# Altium footprint library libreriaPcb.PcbLib: 683 footprints (part 39 of 44)
Each footprint in its own frame and in the unit in brackets; x right, y up, seen from the top. Pads: shape width x height; smd on the part's side, far side on the other; paste and mask are expansions set on the pad; w line width, h text height; cw(c..) or ccw(c..) is an arc to the next point about the centre after c.
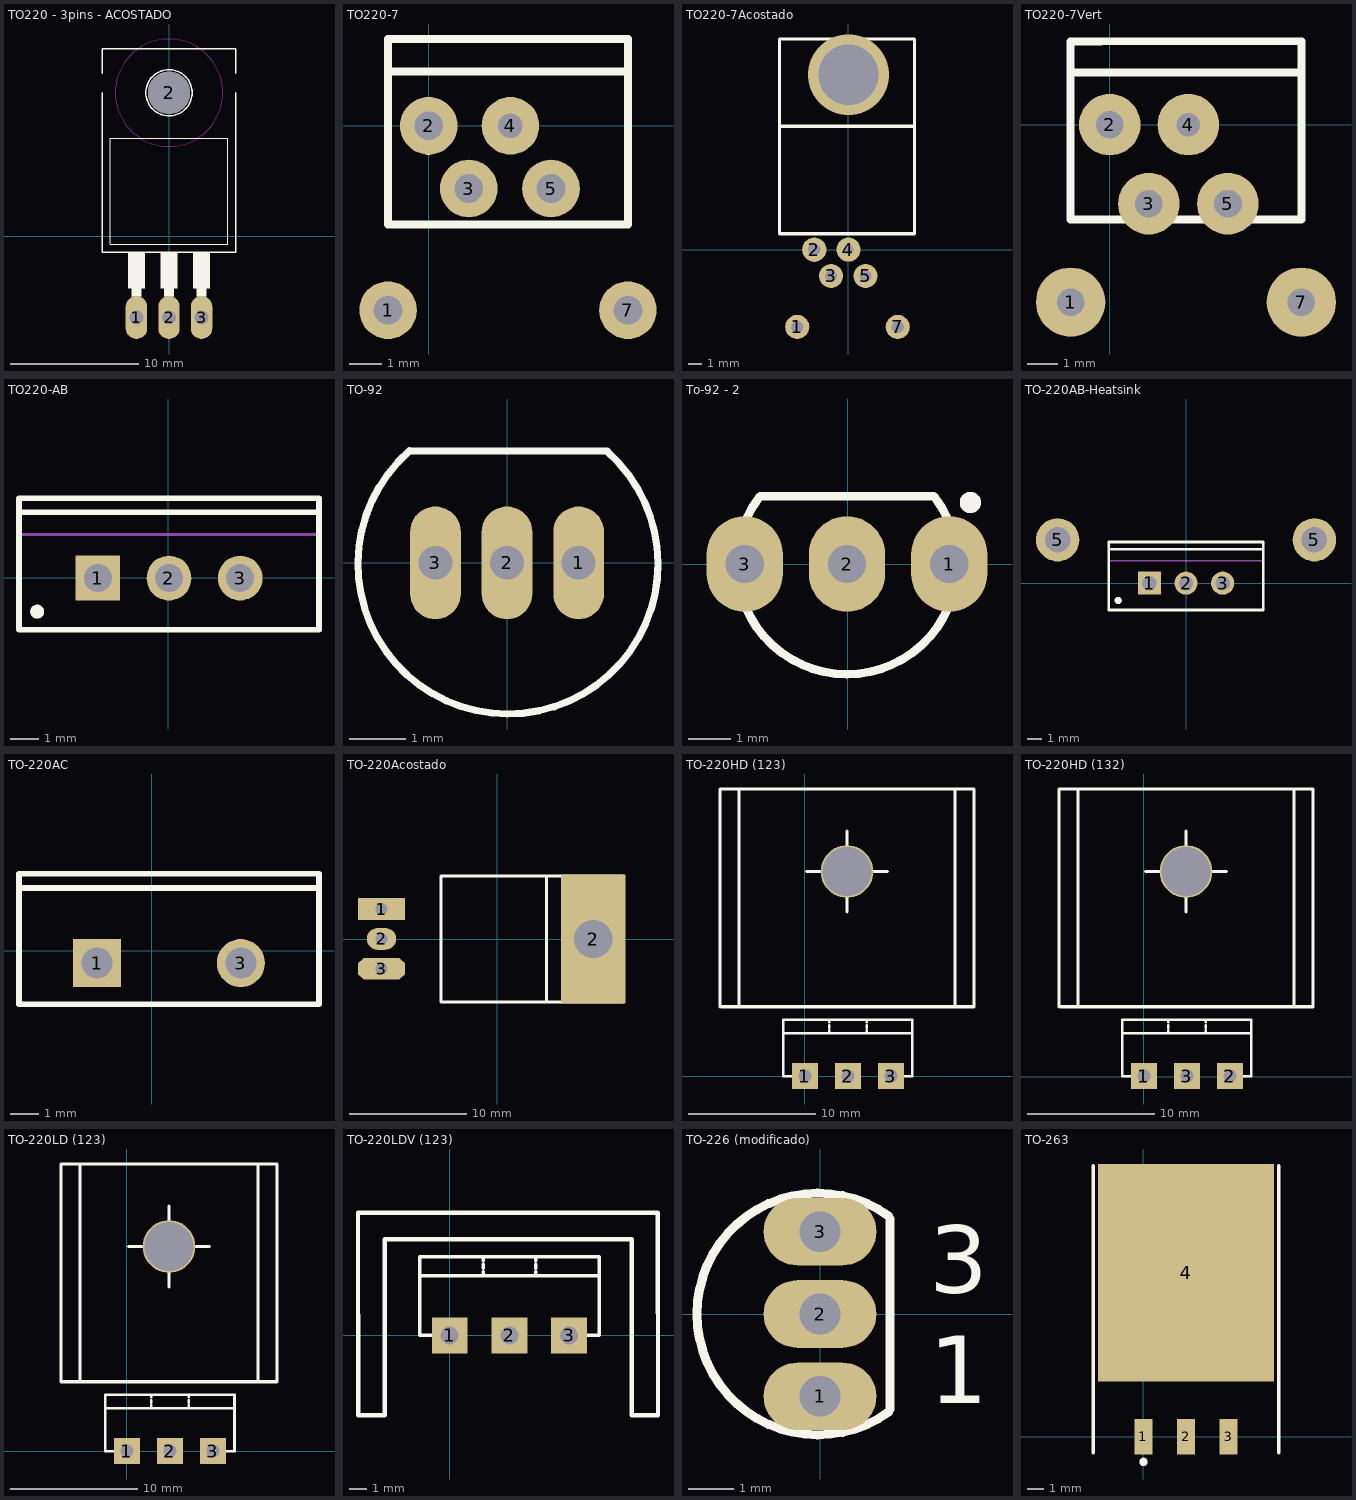
[diagram p38: the footprints below, top view; thin cyan lines are the x and y axes]

## TO220 - 3pins - ACOSTADO [mil]
pads (4):
  oval 66x132 hole 44: 1(-100,-250) 2(0,-250) 3(100,-250)
  round 130 hole 130 unplated: 2(0,440)
Top Overlay:
  circle w5: c0,440 r71
  region: 115,-185.06 85.03,-185.06 85.03,-160 115,-160
  region: 15,-185.09 -15.01,-185.09 -15.01,-160 15,-160
  region: -85,-185.08 -115.05,-185.08 -115.05,-160 -85,-160
  region: -75,-160.28 -125.22,-160.28 -125.22,-50 -75,-50
  region: 25,-160.22 -25.03,-160.22 -25.03,-50 25,-50
  region: 125,-160.18 75.08,-160.18 75.08,-50 125,-50
  lines w2: -180,-25 180,-25 180,300 -180,300 -180,-25
  lines w5: -205,440 -205,-50 205,-50 205,440 ; -205,500 -205,575 205,575 205,500
Keep-Out Layer:
  circle w0: c0,440 r165
  circle w0: c0,440 r165
Mechanical 13:
  region: -85,-260.33 -115.14,-260.33 -115.14,-185 -85,-185
  region: 15,-260.5 -15.03,-260.5 -15.03,-185 15,-185
  region: 115,-260.31 85.1,-260.31 85.1,-185 115,-185
  text "1" at -125.24,0 h50.1
  text "2" at -25.04,0 h50.08
  text "3" at 75.02,0 h50.01
3D body "step_temp.STEP": height 1155, standoff 0, extent -200,-67.5 200,112.5

## TO220-7 [mm]
pads (6):
  round 1.8 hole 0.9: 1(-1.27,-5.76) 2(0,0) 3(1.25,-1.96) 5(3.82,-1.96) 7(6.22,-5.76)
  round 1.8 hole 0.762: 4(2.55,0)
Top Overlay:
  lines w0.254: -1.19,2.71 6.22,2.71 ; -0.294,2.706 -1.27,2.706 -1.27,1.69 ; -0.02,-0.78 0,-0.78 ; 5.33,2.71 6.22,2.71 ; -1.27,1.69 -1.27,-3.08 6.22,-3.08 6.22,1.69 ; -1.27,1.69 6.22,1.69 ; 6.22,1.69 6.22,2.71

## TO220-7Acostado [mm]
pads (6):
  round 1.8 hole 0.9: 1(-3.82,-5.76) 2(-2.55,0) 3(-1.3,-1.96) 5(1.27,-1.96) 7(3.67,-5.76)
  round 1.8 hole 0.762: 4(0,0)
via 0,13.03 diameter 6 hole 4.5
Top Overlay:
  lines w0.254: -2.57,-0.78 -2.55,-0.78 ; -5.141,9.195 -5.141,1.194 4.918,1.194 4.918,9.195 ; -5.141,9.195 4.918,9.195 ; -5.141,9.195 -5.141,15.697 4.918,15.697 4.918,9.195
3D body: height 3.5, standoff 2.5, extent 3.134,-5.755 4.13,1.245
3D body: height 3.5, standoff 0, extent 3.161,-6.316 4.157,-5.318
3D body: height 3.5, standoff 0, extent -4.256,-6.265 -3.26,-5.267
3D body: height 3.5, standoff 0, extent 0.773,-2.506 1.769,-1.508
3D body: height 3.5, standoff 0, extent -1.796,-2.459 -0.8,-1.461
3D body: height 3.5, standoff 0, extent -0.547,-0.499 0.449,0.499
3D body: height 6, standoff 2, extent -5.141,1.194 4.918,9.195
3D body: height 4, standoff 2, extent -5.141,9.195 4.918,15.697
3D body: height 3.5, standoff 0, extent -3.059,-0.48 -2.063,0.518
3D body: height 3.5, standoff 2.5, extent -4.278,-5.811 -3.282,1.189
3D body: height 3.5, standoff 2.5, extent -1.793,-1.881 -0.797,1.119
3D body: height 3.5, standoff 2.5, extent 0.772,-1.96 1.768,1.04
3D body: height 3.5, standoff 2.5, extent -3.063,-0.381 -2.067,1.119
3D body: height 3.5, standoff 2.5, extent -0.508,-0.279 0.488,1.221

## TO220-7Vert [mm]
pads (6):
  round 2.25 hole 0.9: 1(-1.27,-5.76) 7(6.22,-5.76)
  round 2 hole 0.9: 2(0,0) 3(1.27,-2.565) 5(3.835,-2.565)
  round 2 hole 0.762: 4(2.55,0)
Top Overlay:
  lines w0.254: -1.19,2.71 6.22,2.71 ; -0.294,2.706 -1.27,2.706 -1.27,1.69 ; -0.02,-0.78 0,-0.78 ; 5.33,2.71 6.22,2.71 ; -1.27,1.69 6.22,1.69 ; -1.27,1.69 -1.27,-3.08 6.22,-3.08 6.22,1.69 ; 6.22,1.69 6.22,2.71
3D body: height 3.8, standoff 2.2, extent -2.044,-5.651 -0.444,-1.651
3D body: height 5, standoff 3, extent 5.385,-2.845 6.985,-1.245
3D body: height 5, standoff 3, extent -2.032,-2.82 -0.432,-1.22
3D body: height 5, standoff 0, extent -0.813,-0.78 0.787,0.819
3D body: height 19, standoff 13, extent -1.295,1.69 6.195,2.71
3D body: height 13, standoff 5, extent -1.27,-3.08 6.22,2.706
3D body: height 5, standoff 0, extent 1.699,-0.799 3.299,0.799
3D body: height 5, standoff 0, extent 0.508,-3.478 2.108,-1.88
3D body: height 5, standoff 0, extent 3.023,-3.428 4.623,-1.829
3D body: height 3.7, standoff 0, extent -2.01,-6.566 -0.41,-4.966
3D body: height 3.7, standoff 0, extent 5.407,-6.617 7.007,-5.017
3D body: height 3.8, standoff 2.2, extent 5.385,-5.708 6.985,-1.708

## TO220-AB [mm] "TO-220 Pkg"
height 18
pads (3):
  rect 1.6x1.6 hole 1: 1(-2.505,-0.011)
  round 1.6 hole 1: 2(0.035,-0.011) 3(2.575,-0.011)
Top Overlay:
  circle w0.25: c-4.665,-1.211 r0.125
  lines w0.2: -5.315,2.339 5.385,2.339 ; -5.315,-1.861 -5.315,2.839 5.385,2.839 5.385,-1.861 -5.315,-1.861
Mechanical 13:
  lines w0.1: -5.315,1.539 5.385,1.539 ; -5.315,-1.861 5.385,-1.861 5.385,2.839 -5.315,2.839 -5.315,-1.861
Mechanical 15:
  lines w0.1: -0.465,-0.011 0.535,-0.011 ; 0.035,-0.511 0.035,0.489
3D body: height 12.9, standoff 4, extent -5.365,-1.911 5.435,2.889
3D body: height 19.3, standoff 12.9, extent -5.314,1.54 5.384,2.838

## TO-92 [mm]
pads (3):
  oval 0.9x2 hole 0.6 paste+0: 1(1.27,0) 2(0,0) 3(-1.27,0)
Top Overlay:
  lines w0.127: -1.728,1.986 ccw(c0.017,-0.021) 1.774,1.976 ; -1.727,1.981 1.778,1.981
3D body: height 5, standoff 1, extent -2.515,-2.642 2.565,1.905
3D body: height 1, standoff 0, extent -1.518,-0.249 -1.02,0.25
3D body: height 1, standoff 0, extent -0.261,-0.249 0.237,0.25
3D body: height 1, standoff 0, extent 0.997,-0.249 1.495,0.25

## To-92 - 2 [mm]
pads (3):
  oval 1.8x2.25 hole 0.9: 1(2.392,0.002) 2(-0.021,0.002) 3(-2.434,0.002)
Top Overlay:
  circle w0.25: c2.889,1.452 r0.125
  lines w0.2: -2.07,1.602 2.028,1.602 ; -2.07,1.603 ccw(c-0.021,0.002) 2.028,1.603
Mechanical 13:
  lines w0.1: -2.07,1.602 2.028,1.602 ; -2.07,1.603 ccw(c-0.021,0.002) 2.028,1.603
Mechanical 15:
  lines w0.1: -0.521,0.002 0.479,0.002 ; -0.021,-0.498 -0.021,0.502
3D body: height 7, standoff 1.5, extent -2.632,-2.597 2.59,1.602

## TO-220AB-Heatsink [mm] "TO, Thru-Hole, Vertical, Heatsink Mounted; 3 In-Line Leads; Pitch 2.54 mm"
height 19.3
pads (5):
  rect 1.6x1.6 hole 1: 1(-2.54,0)
  round 1.6 hole 1: 2(0,0) 3(2.54,0)
  round 3 hole 1.75: 5(-8.89,3) 5(8.89,3)
Top Overlay:
  circle w0.25: c-4.7,-1.2 r0.125
  lines w0.2: -5.35,2.35 5.35,2.35 ; -5.35,-1.85 -5.35,2.85 5.35,2.85 5.35,-1.85 -5.35,-1.85
Mechanical 13:
  lines w0.1: -5.35,1.55 5.35,1.55 ; -5.35,-1.85 5.35,-1.85 5.35,2.85 -5.35,2.85 -5.35,-1.85
Mechanical 15:
  lines w0.1: -0.5,0 0.5,0 ; 0,-0.5 0,0.5
3D body: height 12.9, standoff 4, extent -5.4,-1.9 5.4,2.9
3D body: height 19.3, standoff 12.9, extent -5.349,1.551 5.349,2.849

## TO-220AC [mm]
pads (2):
  rect 1.7x1.7 hole 1.1: 1(-1.93,-0.432)
  round 1.7 hole 1.1: 3(3.15,-0.432)
Top Overlay:
  lines w0.2: -4.69,2.218 5.91,2.218 ; -4.69,-1.882 5.91,-1.882 5.91,2.718 -4.69,2.718 -4.69,-1.882
3D body: height 12.9, standoff 4, extent -4.409,-1.6 5.69,2.646
3D body: height 19.3, standoff 12.9, extent -4.359,1.297 5.664,2.595

## TO-220Acostado [mm]
pads (4):
  rect 4x1.85 hole 1: 1(-9.843,2.569)
  oval 2.5x1.85 hole 1: 2(-9.843,0.029)
  rect 5.5x11 hole 3.25: 2(8.166,0.02)
  oct 4x1.85 hole 1: 3(-9.843,-2.511)
Top Overlay:
  lines w0.254: 4.178,-5.321 4.178,5.379 ; 4.178,-5.321 -4.788,-5.321 -4.788,5.379 4.178,5.379 ; 4.178,-5.321 10.681,-5.321 10.681,5.379 4.178,5.379
Mechanical 15:
  lines w0.1: -10.343,0.029 -9.343,0.029 ; -9.843,-0.471 -9.843,0.529
3D body: height 4, standoff 0, extent -4.597,-5.406 4.178,5.394
3D body: height 1.1, standoff 0, extent 4.178,-5.321 10.731,5.378
3D body: height 3, standoff 2, extent -9.991,2.069 -4.991,3.069
3D body: height 2.5, standoff 0, extent -10.342,2.069 -9.342,3.069
3D body: height 2.5, standoff 0, extent -10.342,-0.471 -9.342,0.529
3D body: height 2.5, standoff 0, extent -10.342,-3.011 -9.342,-2.011
3D body: height 3, standoff 2, extent -9.94,-2.986 -4.94,-1.986
3D body: height 3, standoff 2, extent -9.915,-0.48 -4.915,0.52
3D body: height 1.15, standoff 0, extent 6.417,-1.73 9.916,1.77

## TO-220HD (123) [mil]
pads (4):
  rect 80x80 hole 40: 1(0,0) 2(133.33,0) 3(266.67,0)
  round 163 hole 153: ""(130.33,634.17)
Top Overlay:
  lines w7.87: -66.67,133.33 333.33,133.33 ; 7.87,0 -66.67,0 -66.67,175 333.33,175 333.33,0 258.79,0 ; 75,133.33 75,141.67 ; 75,150 75,158.33 ; 75,166.67 75,175 ; 191.67,133.33 191.67,141.67 ; 191.67,150 191.67,158.33 ; 191.67,166.67 191.67,175
  lines w10: -263.37,215.07 -263.37,890.07 524.03,890.07 524.03,215.07 -257.66,215.07 ; -204.31,215.07 -204.31,890.07 ; 5.33,634.17 55.33,634.17 ; 130.33,509.17 130.33,559.17 ; 130.33,709.17 130.33,759.17 ; 205.33,634.17 255.33,634.17 ; 464.98,215.07 464.98,890.07

## TO-220HD (132) [mil]
pads (4):
  rect 80x80 hole 40: 1(0,1.67) 2(266.67,1.67) 3(133.33,1.67)
  round 163 hole 153: ""(130.33,635.83)
Top Overlay:
  lines w7.87: -66.67,135 333.33,135 ; 7.87,1.67 -66.67,1.67 -66.67,176.67 333.33,176.67 333.33,1.67 258.79,1.67 ; 75,135 75,143.33 ; 75,151.67 75,160 ; 75,168.33 75,176.67 ; 191.67,135 191.67,143.33 ; 191.67,151.67 191.67,160 ; 191.67,168.33 191.67,176.67
  lines w10: -263.37,216.74 -263.37,891.74 524.03,891.74 524.03,216.74 -257.66,216.74 ; -204.31,216.74 -204.31,891.74 ; 5.33,635.83 55.33,635.83 ; 130.33,510.83 130.33,560.83 ; 130.33,710.83 130.33,760.83 ; 205.33,635.83 255.33,635.83 ; 464.98,216.74 464.98,891.74

## TO-220LD (123) [mil]
pads (4):
  rect 80x80 hole 40: 1(0,0) 2(133.33,0) 3(266.67,0)
  round 163 hole 153: ""(130.33,634.17)
Top Overlay:
  lines w7.87: -66.67,133.33 333.33,133.33 ; 7.87,0 -66.67,0 -66.67,175 333.33,175 333.33,0 258.79,0 ; 75,133.33 75,141.67 ; 75,150 75,158.33 ; 75,166.67 75,175 ; 191.67,133.33 191.67,141.67 ; 191.67,150 191.67,158.33 ; 191.67,166.67 191.67,175
  lines w10: -145.26,215 -145.26,890 ; 5.33,634.17 55.33,634.17 ; 130.33,509.17 130.33,559.17 ; 130.33,709.17 130.33,759.17 ; 205.33,634.17 255.33,634.17 ; 405.92,215 405.92,890 ; -204.31,215 464.98,215 464.98,890 -204.31,890 -204.31,215

## TO-220LDV (123) [mil]
pads (3):
  rect 80x80 hole 40: 1(0,0) 2(133.33,0) 3(266.67,0)
Top Overlay:
  lines w7.87: -66.67,133.33 333.33,133.33 ; 7.87,0 -66.67,0 -66.67,175 333.33,175 333.33,0 258.79,0 ; 75,133.33 75,141.67 ; 75,150 75,158.33 ; 75,166.67 75,175 ; 191.67,133.33 191.67,141.67 ; 191.67,150 191.67,158.33 ; 191.67,166.67 191.67,175
  lines w10: -204.31,-178.63 -204.72,274.13 464.57,274.13 465,-178.63 ; -204.24,-178.7 -145.26,-178.7 -145.26,215 405.92,215 405.92,-178.7 464.93,-178.7

## TO-226 (modificado) [mm] "TO, Flat Index; 3 In-Line, Axial Leads; Body Dia. 4.8mm; Leads 0.55 x 0.51 mm (max)"
height 5.33
pads (3):
  oval 2.5x1.5 hole 0.9: 1(0,-1.825) 2(0,0) 3(0,1.825)
Top Overlay:
  lines w0.2: 1.52,-2.171 cw(c-0.048,0) 1.52,2.171 ; 1.55,-2.1 1.55,2.1
  text "1" at 2.421,-1.979 h1.5
  text "3" at 2.421,0.467 h1.5

## TO-263 [mm]
pads (4):
  rect 1.05x2.1 smd: 1(0,0) 2(2.54,0) 3(5.08,0)
  rect 10.5x13 smd: 4(2.54,9.8)
Top Overlay:
  circle w0.25: c0,-1.5 r0.125
  lines w0.2: -3.01,-0.95 -3.01,13.5 -3.01,16.19 ; 8.09,-0.95 8.09,13.5 8.09,16.19